# Altium footprint library SwitchKey.PcbLib: 1 footprints
Each footprint in its own frame and in the unit in brackets; x right, y up, seen from the top. Pads: shape width x height; smd on the part's side, far side on the other; paste and mask are expansions set on the pad; w line width, h text height; cw(c..) or ccw(c..) is an arc to the next point about the centre after c.
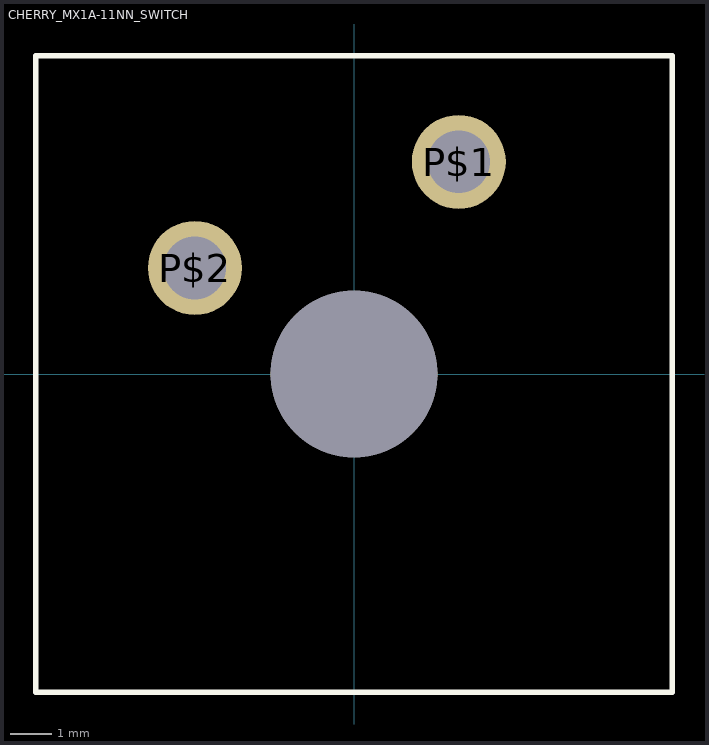
[diagram p0: the footprint, top view; thin cyan lines are the x and y axes]

## CHERRY_MX1A-11NN_SWITCH [mm]
pads (3):
  round 2.25 hole 1.5: P$1(2.51,5.08) P$2(-3.81,2.54)
  round 3.988 hole 3.988 unplated: ""(0,0)
Top Overlay:
  lines w0.127: -7.62,-7.62 7.62,-7.62 7.62,7.62 -7.62,7.62 -7.62,-7.62
3D body "MX1A-E1NW--3DModel-STEP-56544.STEP": height 15.24, standoff -3.3, extent -7.747,-8.097 7.747,8.097